# EAGLE library part MATRIX8X8 (library matrix8x8)
Erstellt von Sören Timm
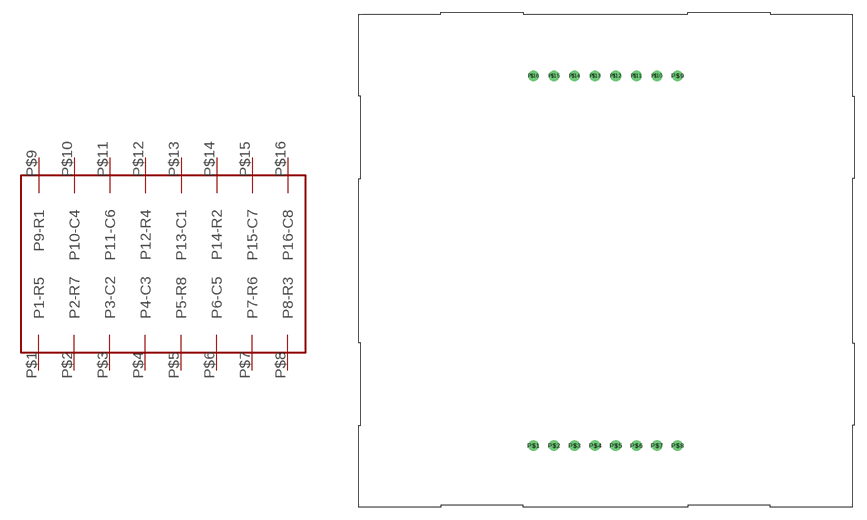
[diagram p1: symbol with the pads of MATRIX; footprint MATRIX]

Designator prefix -

## MATRIX8X8  [MATRIX]
P$1  P1-R5
P$2  P2-R7
P$3  P3-C2
P$4  P4-C3
P$5  P5-R8
P$6  P6-C5
P$7  P7-R6
P$8  P8-R3
P$9  P9-R1
P$10  P10-C4
P$11  P11-C6
P$12  P12-R4
P$13  P13-C1
P$14  P14-R2
P$15  P15-C7
P$16  P16-C8

## Footprint MATRIX (pad centres in mm)
drill 0.8: P$1 21.59,-53.34; P$2 24.13,-53.34; P$3 26.67,-53.34; P$4 29.21,-53.34; P$5 31.75,-53.34; P$6 34.29,-53.34; P$7 36.83,-53.34; P$8 39.37,-53.34; P$9 39.37,-7.62; P$10 36.83,-7.62; P$11 34.29,-7.62; P$12 31.75,-7.62; P$13 29.21,-7.62; P$14 26.67,-7.62; P$15 24.13,-7.62; P$16 21.59,-7.62